# Altium schematic symbol library SCH - DIODES - LED A-C.SCHLIB: 1 symbol
Pins are listed as number, name and electrical type; pins without a type are passive.

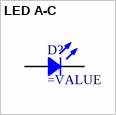
[diagram p0: symbol LED A-C]

## LED A-C
designator D?
Chip LED
pins: A, C